# EAGLE library part I2C-LEVELCONVERTER-PCB (library stopwatch)
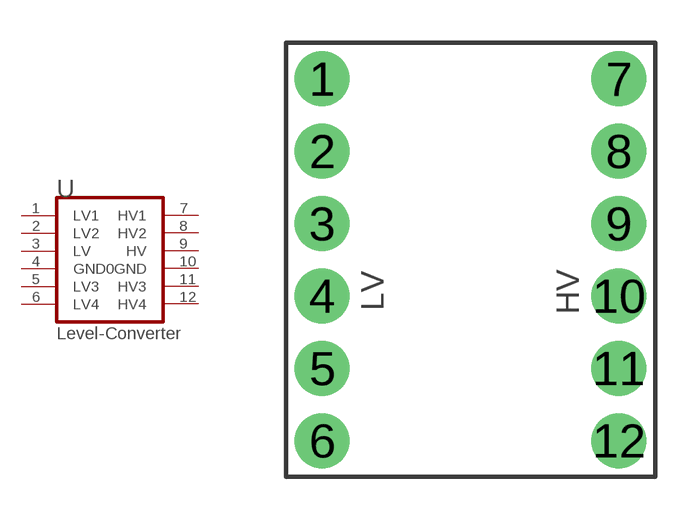
[diagram p8: symbol with the pads of I2C-LEVELCONVERTER-PCB; footprint I2C-LEVELCONVERTER-PCB]

Designator prefix -

## I2C-LEVELCONVERTER-PCB  [I2C-LEVELCONVERTER-PCB]
1  LV1
2  LV2
3  LV  pwr
4  GND0  pwr
5  LV3
6  LV4
7  HV1
8  HV2
9  HV  pwr
10  GND  pwr
11  HV3
12  HV4

## Footprint I2C-LEVELCONVERTER-PCB (pad centres in mm)
drill 1 pad 1.93: 1 1.27,13.97; 2 1.27,11.43; 3 1.27,8.89; 4 1.27,6.35; 5 1.27,3.81; 6 1.27,1.27; 7 11.684,13.97; 8 11.684,11.43; 9 11.684,8.89; 10 11.684,6.35; 11 11.684,3.81; 12 11.684,1.27